# Altium schematic symbol library 9-Con_lib.SchLib: 30 symbols
Pins are listed as number, name and electrical type; pins without a type are passive.

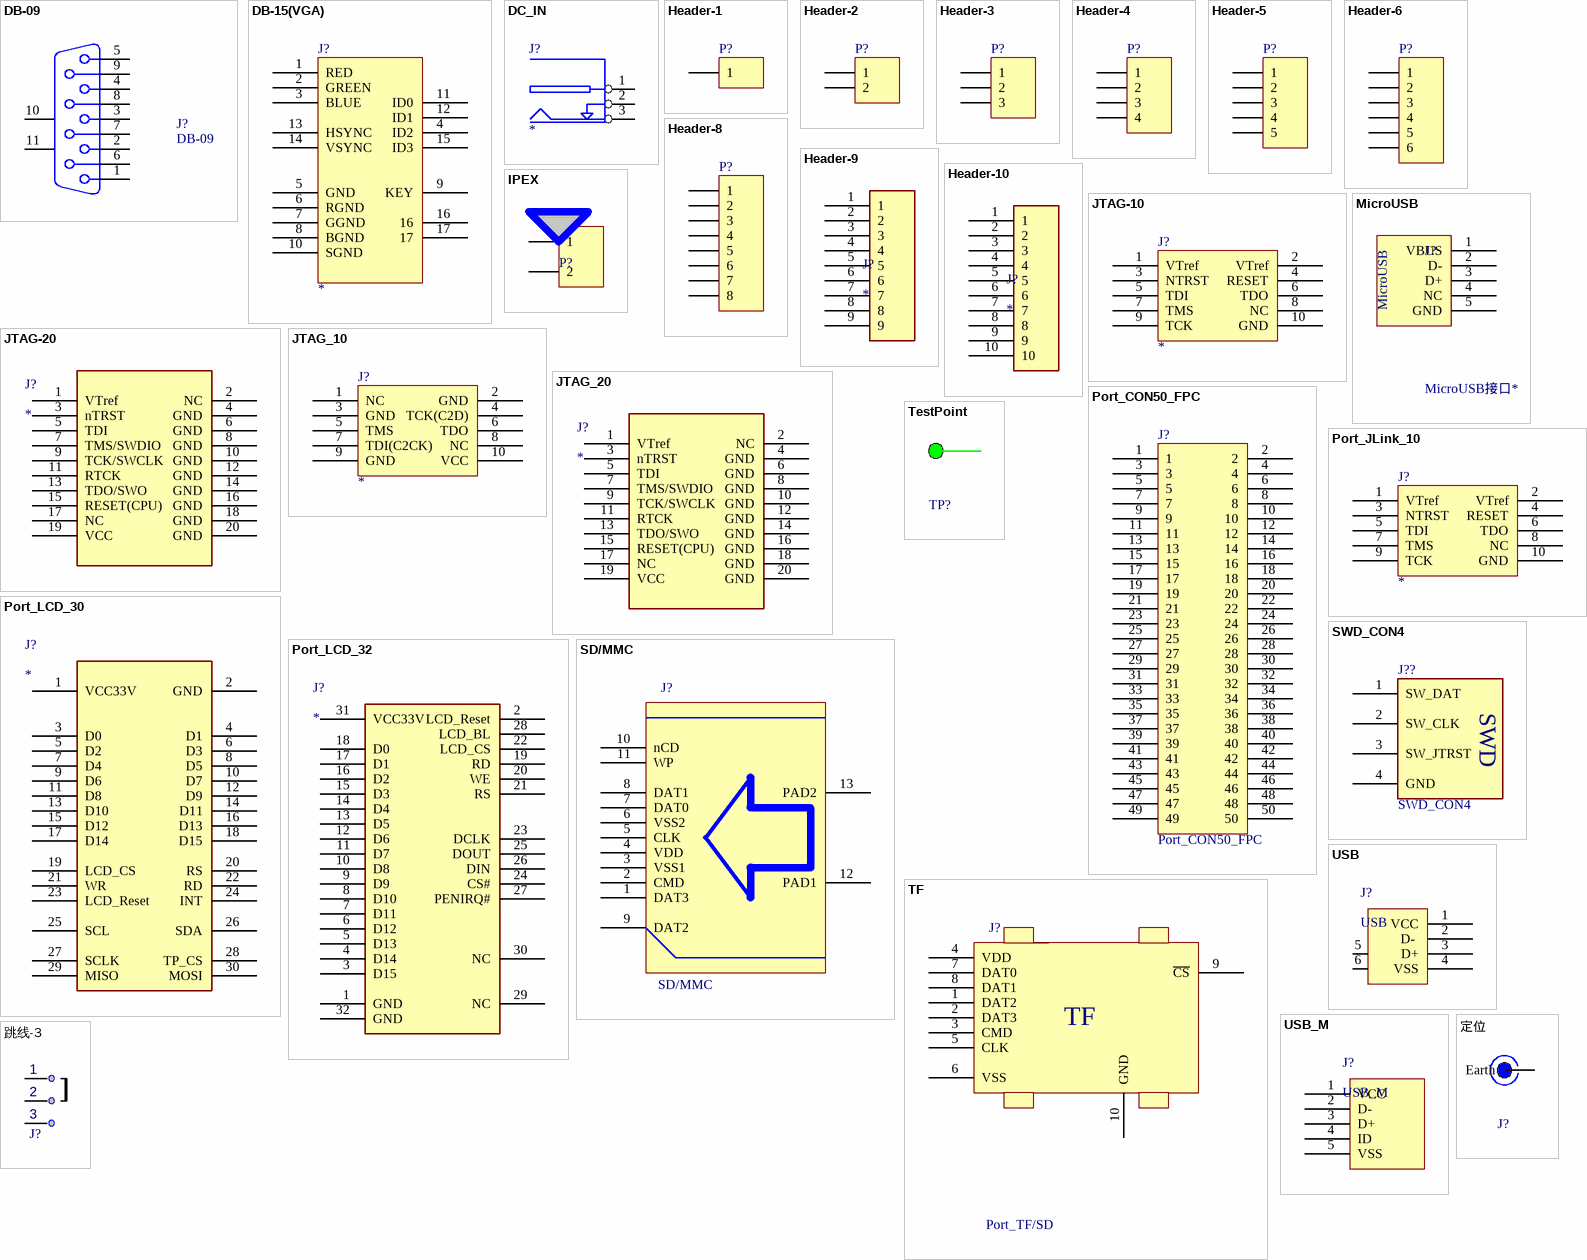
[diagram p0: symbols DB-09 to 跳线-3]

## DB-09
designator J?
串口端子; 厂家: *xx; 品名: 接口-DB09; 精度: 无; 版本: 2015-V1.0; 价格: 0.5
footprint DB9_A
footprint DB9
footprint DB9_F
footprint DB9_M
pins: 1, 2, 3, 4, 5, 6, 7, 8, 9, 10 MH1, 11 MH2

## DB-15(VGA)
designator J?
VGA接口
footprint DB15FP
footprint VGA15
pins: 1 RED, 2 GREEN, 3 BLUE, 4 ID2, 5 GND, 6 RGND, 7 GGND, 8 BGND, 9 KEY, 10 SGND, 11 ID0, 12 ID1, 13 HSYNC, 14 VSYNC, 15 ID3, 16, 17

## DC_IN
designator J?
直流电源端子
footprint DC-002 (DC母座3.5mm)
footprint DC-005 (DC母座5.5mm)
footprint DC_005-1
pins: 1, 2, 3

## Header-1
designator P?  (value not drawn)
接插件; LatestRevisionDate: 17-Jul-2002; LatestRevisionNote: Re-released for DXP Platform.; Publisher: Altium Limited
footprint 2EDGK-1P
footprint PIN1 (Connector; Plug)
footprint SIP1-A
pins: 1

## Header-2
designator P?  (value not drawn)
接插件; LatestRevisionDate: 17-Jul-2002; LatestRevisionNote: Re-released for DXP Platform.; Publisher: Altium Limited
footprint 2EDGK-2P
footprint 2PDL_90
footprint 5.08-2P (插拔端子)
footprint HDR1X2 (Connector; Header; 2 Position)
footprint 43045-2P
footprint HX2.54-2 (两针白色插座（已加焊）)
footprint RCA-2P
footprint HDR2X1_B1 (Connector; Header; 4 Position)
pins: 1, 2

## Header-3
designator P?  (value not drawn)
接插件; LatestRevisionDate: 17-Jul-2002; LatestRevisionNote: Re-released for DXP Platform.; Publisher: Altium Limited
footprint 3PDL_90 (紧固螺丝-3-)
footprint 3.96-3P
footprint HDR1X3 (Connector; Header; 3 Position)
pins: 1, 2, 3

## Header-4
designator P?  (value not drawn)
接插件; LatestRevisionDate: 17-Jul-2002; LatestRevisionNote: Re-released for DXP Platform.; Publisher: Altium Limited
footprint 3.96-4P
footprint HDR1X4 (Connector; Header; 4 Position)
footprint HX2.54-4
footprint 43045-4P
footprint SIP4-2.54
footprint FPC4
pins: 1, 2, 3, 4

## Header-5
designator P?  (value not drawn)
接插件; LatestRevisionDate: 17-Jul-2002; LatestRevisionNote: Re-released for DXP Platform.; Publisher: Altium Limited
footprint HDR1X5 (Connector; Header; 5 Position)
footprint HX2.54-5
pins: 1, 2, 3, 4, 5

## Header-6
designator P?  (value not drawn)
接插件; LatestRevisionDate: 17-Jul-2002; LatestRevisionNote: Re-released for DXP Platform.; Publisher: Altium Limited
footprint 43045-6P
footprint 3.96-6P
footprint HX2.54-6
footprint HX3.96-6
footprint IDC-6P
pins: 1, 2, 3, 4, 5, 6

## Header-8
designator P?  (value not drawn)
接插件; LatestRevisionDate: 17-Jul-2002; LatestRevisionNote: Re-released for DXP Platform.; Publisher: Altium Limited
footprint HX2.54-8
footprint IDC-8P
footprint HDR1X8 (Connector; Header; 8 Position)
pins: 1, 2, 3, 4, 5, 6, 7, 8

## Header-9
designator J?
单排，9引脚
pins: 1, 2, 3, 4, 5, 6, 7, 8, 9

## Header-10
designator J?
10引脚
footprint 2EDGK-10P
footprint 43045-10P
footprint FPC-1.25MML-10P
footprint HDR5X2-LP
footprint IDC2X5-2.0
footprint IDC10
footprint IDC3
footprint IDC2.54-10
pins: 1, 2, 3, 4, 5, 6, 7, 8, 9, 10

## IPEX
designator P?  (value not drawn)
天线座; LatestRevisionDate: 17-Jul-2002; LatestRevisionNote: Re-released for DXP Platform.; Publisher: Altium Limited
footprint IPEX
pins: 1, 2

## JTAG-10
designator J?
10脚JTAG(IDC3-10P)
footprint IDC2.54-10
footprint IDC2X5-2.0
pins: 1 VTref, 2 VTref, 3 NTRST, 4 RESET, 5 TDI, 6 TDO, 7 TMS, 8 NC, 9 TCK, 10 GND

## JTAG-20
designator J?
20脚JTAG(IDC3-20P)
footprint HDR10X2_A1
pins: 1 VTref, 2 NC, 3 nTRST, 4 GND, 5 TDI, 6 GND, 7 TMS/SWDIO, 8 GND, 9 TCK/SWCLK, 10 GND, 11 RTCK, 12 GND, 13 TDO/SWO, 14 GND, 15 RESET(CPU), 16 GND, 17 NC, 18 GND, 19 VCC, 20 GND

## JTAG_10
designator J?
10脚JTAG接口
footprint HDR5X2-LP
pins: 1 NC, 2 GND, 3 GND, 4 TCK(C2D), 5 TMS, 6 TDO, 7 TDI(C2CK), 8 NC, 9 GND, 10 VCC

## JTAG_20
designator J?
20脚JTAG接口
footprint IDC20-2.0MM
pins: 1 VTref, 2 NC, 3 nTRST, 4 GND, 5 TDI, 6 GND, 7 TMS/SWDIO, 8 GND, 9 TCK/SWCLK, 10 GND, 11 RTCK, 12 GND, 13 TDO/SWO, 14 GND, 15 RESET(CPU), 16 GND, 17 NC, 18 GND, 19 VCC, 20 GND

## MicroUSB
designator J?, comment MicroUSB接口*
footprint USB-Micro
pins: 1 VBUS, 2 D-, 3 D+, 4 NC, 5 GND

## Port_CON50_FPC
designator J?
footprint FPC50
footprint FPC50-A
footprint FPC50-B
pins: 1, 2, 3, 4, 5, 6, 7, 8, 9, 10, 11, 12, 13, 14, 15, 16, 17, 18, 19, 20, 21, 22, 23, 24, 25, 26, 27, 28, 29, 30, 31, 32, 33, 34, 35, 36, 37, 38, 39, 40, 41, 42, 43, 44, 45, 46, 47, 48, 49, 50
2 alternate drawings of the same symbol

## Port_JLink_10
designator J?
10脚JLink转接板接口
footprint HDR5X2-LP
pins: 1 VTref, 2 VTref, 3 NTRST, 4 RESET, 5 TDI, 6 TDO, 7 TMS, 8 NC, 9 TCK, 10 GND

## Port_LCD_30
designator J?
footprint IDC30 - 2_54_JN_180
footprint IDC30 - 2_54_NJ_180
pins: 1 VCC33V, 2 GND, 3 D0, 4 D1, 5 D2, 6 D3, 7 D4, 8 D5, 9 D6, 10 D7, 11 D8, 12 D9, 13 D10, 14 D11, 15 D12, 16 D13, 17 D14, 18 D15, 19 LCD_CS, 20 RS, 21 WR, 22 RD, 23 LCD_Reset, 24 INT, 25 SCL, 26 SDA, 27 SCLK, 28 TP_CS, 29 MISO, 30 MOSI

## Port_LCD_32
designator J?
野火WF3.2-LCD
pins: 1 GND, 2 LCD_Reset, 3 D15, 4 D14, 5 D13, 6 D12, 7 D11, 8 D10, 9 D9, 10 D8, 11 D7, 12 D6, 13 D5, 14 D4, 15 D3, 16 D2, 17 D1, 18 D0, 19 RD, 20 WE, 21 RS, 22 LCD_CS, 23 DCLK, 24 CS#, 25 DOUT, 26 DIN, 27 PENIRQ#, 28 LCD_BL, 29 NC, 30 NC, 31 VCC33V, 32 GND

## SD/MMC
designator J?
Text Field1: 120; Text Field2: 180
footprint SDCARD1
pins: 1 DAT3, 2 CMD, 3 VSS1, 4 VDD, 5 CLK, 6 VSS2, 7 DAT0, 8 DAT1, 9 DAT2, 10 nCD, 11 WP, 12 PAD1, 13 PAD2

## SWD_CON4
designator J??
SWD调试接口
pins: 1 SW_DAT, 2 SW_CLK, 3 SW_JTRST, 4 GND
text: SWD

## TestPoint
designator TP?  (value not drawn)
footprint SIP1-A
pins: 1
2 alternate drawings of the same symbol

## TF
designator J?, comment Port_TF/SD
Text Field1: 120; Text Field2: 180
footprint TF
footprint SDCARD-M (TF卡)
pins: 1 DAT2, 2 DAT3, 3 CMD, 4 VDD, 5 CLK, 6 VSS, 7 DAT0, 8 DAT1, 9 ~{CS}, 10 GND

## USB
designator J?
USB接口
pins: 1 VCC, 2 D- , 3 D+, 4 VSS, 5, 6

## USB_M
designator J?
MicroUSB接口
pins: 1 VCC, 2 D- , 3 D+, 4 ID, 5 VSS

## 定位
designator J?  (value not drawn)
footprint 镙钉孔
pins: 1 Earth
2 alternate drawings of the same symbol

## 跳线-3
designator J?, comment Jin_跳线  (value not drawn)
跳线，1
footprint HDR1X3(2.0)
pins: 1, 2, 3
2 alternate drawings of the same symbol